# Altium schematic symbol library SCHLib.SchLib: 1 symbol
Pins are listed as number, name and electrical type; pins without a type are passive.

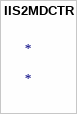
[diagram p0: symbol IIS2MDCTR]

## IIS2MDCTR
designator *
HIGH ACCURACY ULTRA-LOW-POWER 3-; Manufacturer: STMicroelectronics; Manufacturer Part Number: IIS2MDCTR; Output Type: SPI,I2C; Sensing Method: Magnetoresistive; Axis: X, Y, Z; Resolution: 16b; Supplier 1: Arrow Electronics; RoHS: No; Stock 1: 40; Case/Package: LGA; Number of Pins: 12; Min Operating Temperature: -40°C; Max Operating Temperature: 85°C; Packaging: Cut Tape; ComponentLink1URL: http://www.farnell.com/datasheets/2600071.pdf?src-supplier=Farnell; ComponentLink1Description: http://www.farnell.com/datasheets/2600071.pdf?src-supplier=Farnell; ComponentLink2URL: http://www.st.com/content/ccc/resource/technical/document/datasheet/group3/06/f2/a3/a7/74/fe/4b/16/DM00431721/files/DM00431721.pdf/jcr:content/translations/en.DM00431721.pdf?src-supplier=Digi-Key; ComponentLink2Description: http://www.st.com/content/ccc/resource/technical/document/datasheet/group3/06/f2/a3/a7/74/fe/4b/16/DM00431721/files/DM00431721.pdf/jcr:content/translations/en.DM00431721.pdf?src-supplier=Digi-Key; ComponentLink3URL: http://www.farnell.com/datasheets/2600071.pdf?src-supplier=Newark; ComponentLink3Description: http://www.farnell.com/datasheets/2600071.pdf?src-supplier=Newark